# Altium footprint library EG2208.PcbLib: 1 footprints
Each footprint in its own frame and in the unit in brackets; x right, y up, seen from the top. Pads: shape width x height; smd on the part's side, far side on the other; paste and mask are expansions set on the pad; w line width, h text height; cw(c..) or ccw(c..) is an arc to the next point about the centre after c.
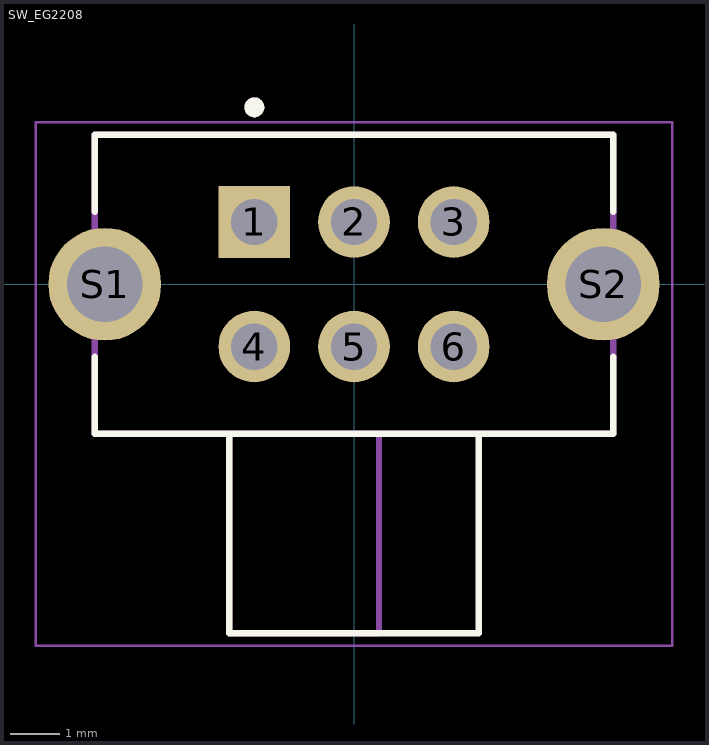
[diagram p0: the footprint, top view; thin cyan lines are the x and y axes]

## SW_EG2208 [mm]
pads (8):
  rect 1.438x1.438 hole 0.93: 1(-2,1.25)
  round 1.438 hole 0.93: 2(0,1.25) 3(2,1.25) 4(-2,-1.25) 5(0,-1.25) 6(2,-1.25)
  round 2.265 hole 1.51: S1(-5,0) S2(5,0)
Top Overlay:
  circle w0.2: c-2,3.55 r0.1
  lines w0.127: -5.2,-1.452 -5.2,-3 -2.5,-3 ; -5.2,1.452 -5.2,3 5.2,3 5.2,1.452 ; 5.2,-1.452 5.2,-3 2.5,-3 ; -2.5,-3 2.5,-3 ; -2.5,-3 -2.5,-7 2.5,-7 2.5,-3
Mechanical 13:
  circle w0.2: c-2,3.55 r0.1
  lines w0.127: -2.5,-3 -5.2,-3 -5.2,3 5.2,3 5.2,-3 0.5,-3 ; -2.5,-3 0.5,-3 ; -2.5,-3 -2.5,-7 0.5,-7 0.5,-3
Mechanical 15:
  lines w0.05: -6.382,-7.25 -6.382,3.25 6.382,3.25 6.382,-7.25 -6.382,-7.25
3D body "step_temp.STEP": height 5, standoff -3, extent -5.15,-7 5.15,3